# Altium footprint library RESAD1081W64L635D269.PcbLib: 1 footprints
Each footprint in its own frame and in the unit in brackets; x right, y up, seen from the top. Pads: shape width x height; smd on the part's side, far side on the other; paste and mask are expansions set on the pad; w line width, h text height; cw(c..) or ccw(c..) is an arc to the next point about the centre after c.
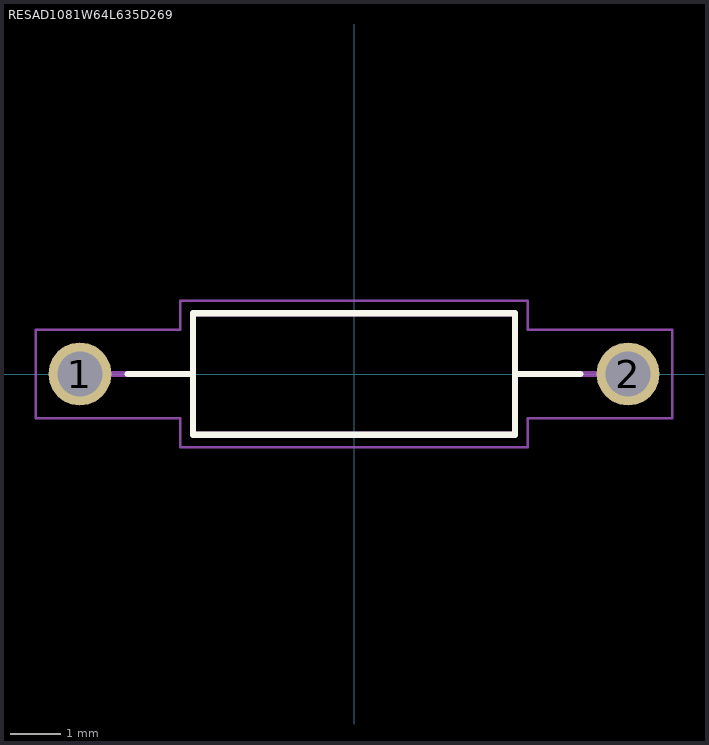
[diagram p0: the footprint, top view; thin cyan lines are the x and y axes]

## RESAD1081W64L635D269 [mm]
pads (2):
  round 1.24 hole 0.89: 1(-5.405,0) 2(5.405,0)
Top Overlay:
  lines w0.127: -4.465,0 -3.175,0 ; 3.175,0 4.465,0 ; -3.175,-1.195 -3.175,1.195 3.175,1.195 3.175,-1.195 -3.175,-1.195
Mechanical 13:
  lines w0.127: -5.405,0 -3.175,0 ; 3.175,0 5.405,0 ; -3.175,-1.195 3.175,-1.195 3.175,1.195 -3.175,1.195 -3.175,-1.195
Mechanical 15:
  lines w0.05: -6.275,-0.87 -3.425,-0.87 -3.425,-1.445 3.425,-1.445 3.425,-0.87 6.275,-0.87 6.275,0.87 3.425,0.87 3.425,1.445 -3.425,1.445 -3.425,0.87 -6.275,0.87 -6.275,-0.87
3D body "RNC55H1003FMB14.STEP": height 3.44, standoff -33.76, extent -5.598,-1.42 5.852,1.27